# Altium footprint library relay.PCBLIB: 291 footprints (part 13 of 19)
Each footprint in its own frame and in the unit in brackets; x right, y up, seen from the top. Pads: shape width x height; smd on the part's side, far side on the other; paste and mask are expansions set on the pad; w line width, h text height; cw(c..) or ccw(c..) is an arc to the next point about the centre after c.
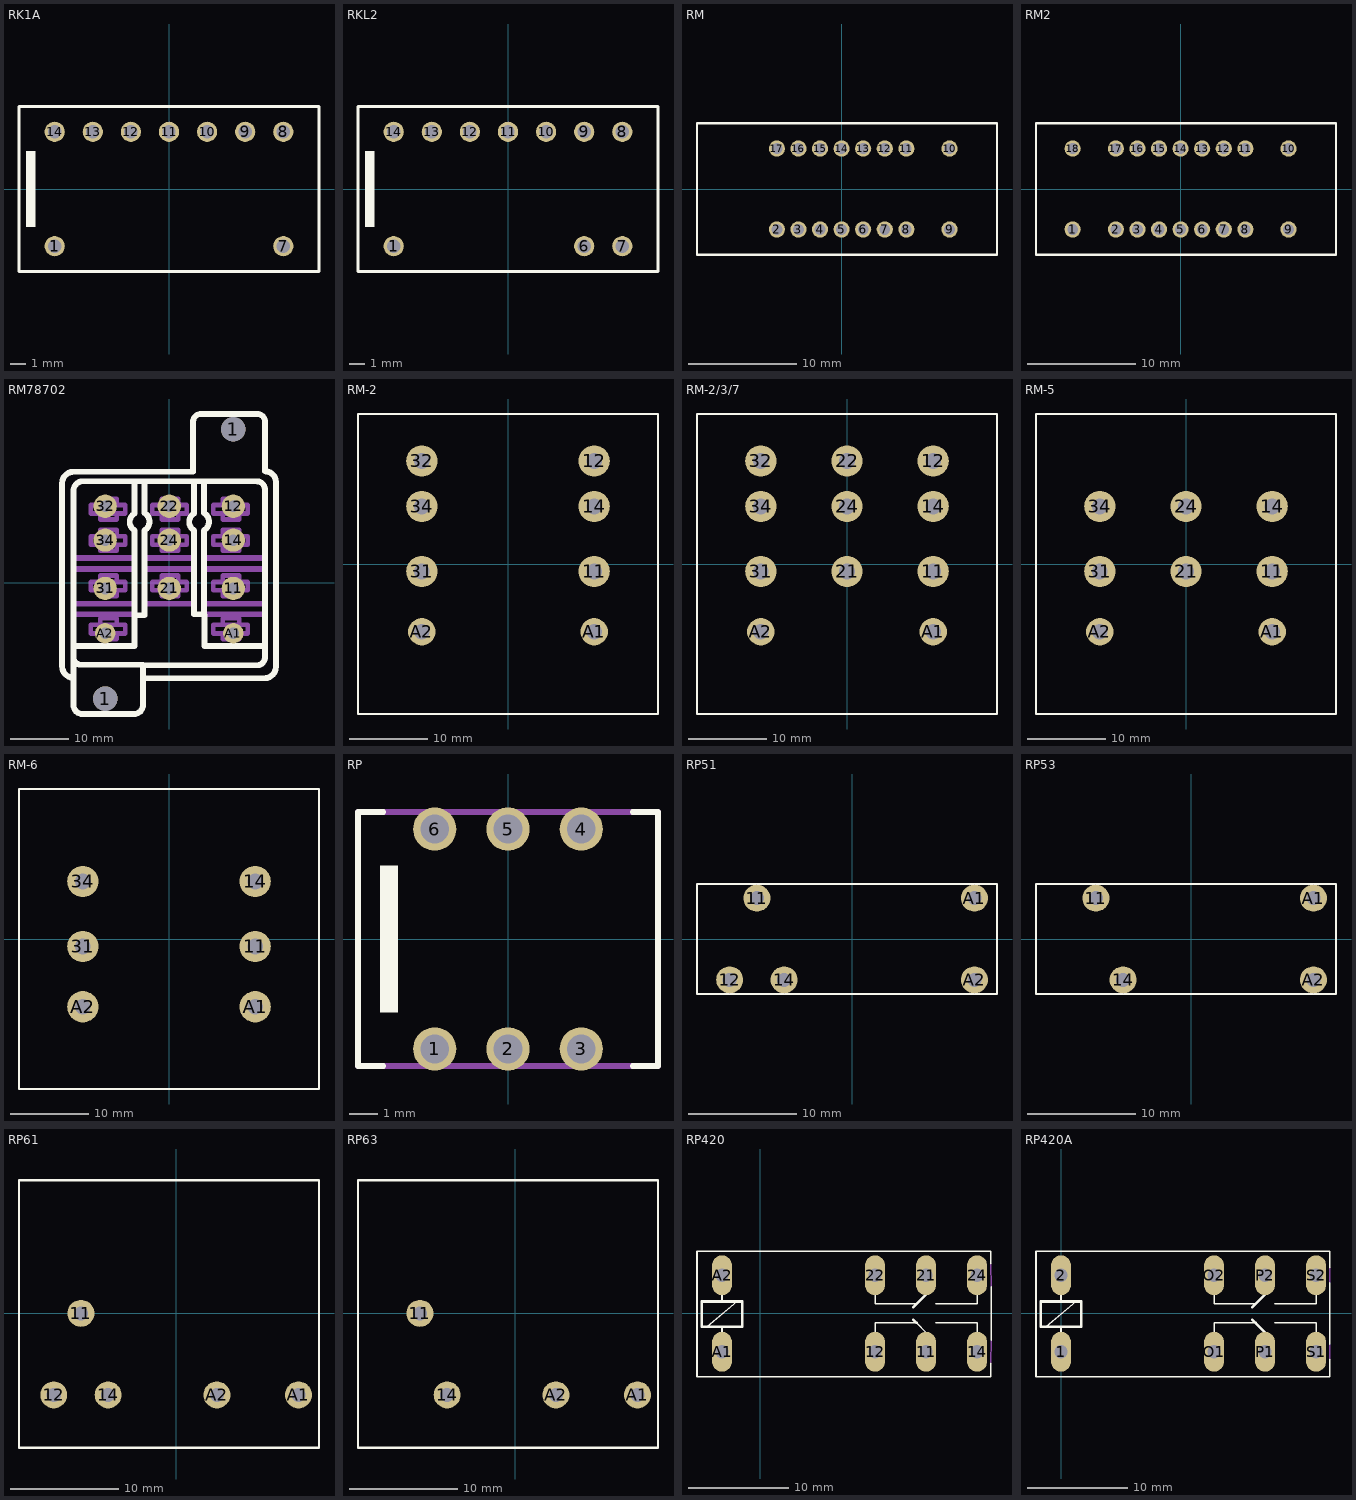
[diagram p12: the footprints below, top view; thin cyan lines are the x and y axes]

## RK1A [mil]
pads (9):
  round 53.15 hole 35.43: 1(-300,-150) 7(300,-150) 8(300,150) 9(200,150) 10(100,150) 11(0,150) 12(-100,150) 13(-200,150) 14(-300,150)
Top Overlay:
  rectangle: -375,-100 -350,100
  lines w8: -393.7,-216.54 393.7,-216.54 393.7,216.54 -393.7,216.54 -393.7,-216.54

## RKL2 [mil]
pads (10):
  round 53.15 hole 35.43: 1(-300,-150) 6(200,-150) 7(300,-150) 8(300,150) 9(200,150) 10(100,150) 11(0,150) 12(-100,150) 13(-200,150) 14(-300,150)
Top Overlay:
  rectangle: -375,-100 -350,100
  lines w8: -393.7,-216.54 393.7,-216.54 393.7,216.54 -393.7,216.54 -393.7,-216.54

## RM [mm]
pads (16):
  round 1.5 hole 1: 2(-6,-3.75) 3(-4,-3.75) 4(-2,-3.75) 5(0,-3.75) 6(2,-3.75) 7(4,-3.75) 8(6,-3.75) 9(10,-3.75) 10(10,3.75) 11(6,3.75) 12(4,3.75) 13(2,3.75) 14(0,3.75) 15(-2,3.75) 16(-4,3.75) 17(-6,3.75)
Top Overlay:
  lines w0.203: -13.4,-6.1 14.4,-6.1 14.4,6.1 -13.4,6.1 -13.4,-6.1

## RM2 [mm]
pads (18):
  round 1.5 hole 1: 1(-10,-3.75) 2(-6,-3.75) 3(-4,-3.75) 4(-2,-3.75) 5(0,-3.75) 6(2,-3.75) 7(4,-3.75) 8(6,-3.75) 9(10,-3.75) 10(10,3.75) 11(6,3.75) 12(4,3.75) 13(2,3.75) 14(0,3.75) 15(-2,3.75) 16(-4,3.75) 17(-6,3.75) 18(-10,3.75)
Top Overlay:
  lines w0.203: -13.4,-6.1 14.4,-6.1 14.4,6.1 -13.4,6.1 -13.4,-6.1

## RM78702 [mm]
pads (13):
  round 4.2 hole 4.2: 1(-11,-19.85) 1(11,26.35)
  round 4 hole 2: 11(11,-0.95) 12(11,13.15) 14(11,7.35) 21(0,-0.95) 22(0,13.15) 24(0,7.35) 31(-11,-0.95) 32(-11,13.15) 34(-11,7.35)
  round 3.5 hole 2: A1(11,-8.65) A2(-11,-8.65)
Top Overlay:
  lines w1: -15.92,-10.819 -5.96,-10.819 -5.96,-5.541 -4.257,-5.541 -4.257,9.018 ccw(c-5.108,10.507) -4.257,11.997 -4.257,16.85 ; -5.96,-5.37 -5.96,9.018 cw(c-5.108,10.465) -5.96,11.912 -5.96,16.85 ; -4.597,-14.139 15.069,-14.139 ccw(c15.069,-12.777) 16.431,-12.777 16.431,15.999 ccw(c14.984,15.999) 14.984,17.446 -14.814,17.446 ccw(c-14.813,15.828) -16.431,15.828 -16.431,-12.777 ; 4.257,16.85 4.257,11.912 ccw(c5.108,10.465) 4.257,9.018 4.257,-5.37 5.959,-5.37 5.959,9.018 ccw(c5.108,10.507) 5.959,11.997 5.959,16.85 ; 6.044,-5.541 6.044,-10.819 16.005,-10.819 ; -16.431,-16.268 -16.431,-12.777 ; -16.431,-16.268 -16.431,-20.968 ccw(c-14.899,-20.968) -14.899,-22.5 -6.045,-22.5 ccw(c-6.045,-20.968) -4.512,-20.968 -4.512,-16.353 ; -16.431,-16.268 cw(c-16.431,-14.309) -18.389,-14.31 -18.389,17.105 cw(c-16.431,17.105) -16.431,19.063 4.087,19.063 4.087,27.627 cw(c5.449,27.627) 5.449,28.989 15.154,28.989 cw(c15.154,27.712) 16.431,27.712 16.431,19.149 cw(c16.474,17.319) 18.304,17.361 18.304,-14.395 cw(c16.346,-14.395) 16.346,-16.353 -4.512,-16.353 ; -16.431,-12.777 ccw(c-15.154,-12.777) -15.154,-14.054 -4.512,-14.054 -4.512,-16.353
Mechanical 16:
  lines w0.8: -11.834,-9.116 -11.834,-9.627 -9.024,-9.627 -9.024,-9.116 ; -11.834,-6.818 -11.834,-6.051 -9.024,-6.051 -9.024,-6.733 ; -11.834,-1.709 -11.834,-2.306 -9.024,-2.306 -9.024,-1.709 ; -11.834,0.504 -11.834,1.27 -9.024,1.27 -9.024,0.589 ; -11.834,6.123 -11.834,5.527 -9.024,5.527 -9.024,6.123 ; -11.834,8.336 -11.834,9.103 -9.024,9.103 -9.024,8.422 ; -11.834,11.486 -11.834,10.891 -9.024,10.891 -9.024,11.486 ; -11.834,13.615 -11.834,14.466 -9.024,14.466 -9.024,13.785 ; -1.277,-1.709 -1.277,-2.306 1.532,-2.306 1.532,-1.709 ; -1.277,0.504 -1.277,1.27 1.532,1.27 1.532,0.589 ; -1.277,6.123 -1.277,5.527 1.532,5.527 1.532,6.123 ; -1.277,8.336 -1.277,9.103 1.532,9.103 1.532,8.422 ; -1.277,11.486 -1.277,10.891 1.532,10.891 1.532,11.486 ; -1.277,13.615 -1.277,14.466 1.532,14.466 1.532,13.785 ; 9.195,-9.116 9.195,-9.627 12.004,-9.627 12.004,-9.116 ; 9.195,-6.818 9.195,-6.051 12.004,-6.051 12.004,-6.733 ; 9.195,-1.709 9.195,-2.306 12.004,-2.306 12.004,-1.709 ; 9.195,0.504 9.195,1.27 12.004,1.27 12.004,0.589 ; 9.195,6.123 9.195,5.527 12.004,5.527 12.004,6.123 ; 9.195,8.336 9.195,9.103 12.004,9.103 12.004,8.422 ; 9.195,11.486 9.195,10.891 12.004,10.891 12.004,11.486 ; 9.195,13.615 9.195,14.466 12.004,14.466 12.004,13.785 ; -13.451,-8.691 -7.577,-8.691 -7.577,-7.158 -13.451,-7.158 -13.451,-8.691 ; -13.451,-1.284 -7.577,-1.284 -7.577,0.164 -13.451,0.164 -13.451,-1.284 ; -13.451,6.549 -7.577,6.549 -7.577,7.996 -13.451,7.996 -13.451,6.549 ; -13.451,11.912 -13.451,13.359 -7.577,13.359 -7.577,11.912 -13.451,11.912 ; -2.895,-1.284 2.98,-1.284 2.98,0.164 -2.895,0.164 -2.895,-1.284 ; -2.895,6.549 2.98,6.549 2.98,7.996 -2.895,7.996 -2.895,6.549 ; -2.895,11.912 -2.895,13.359 2.98,13.359 2.98,11.912 -2.895,11.912 ; 7.577,-8.691 13.451,-8.691 13.451,-7.158 7.577,-7.158 7.577,-8.691 ; 7.577,-1.284 13.451,-1.284 13.451,0.164 7.577,0.164 7.577,-1.284 ; 7.577,6.549 13.451,6.549 13.451,7.996 7.577,7.996 7.577,6.549 ; 7.577,11.912 7.577,13.359 13.451,13.359 13.451,11.912 7.577,11.912
  lines w1: -16.005,-5.37 -5.96,-5.37 ; -16.005,-3.582 -6.47,-3.582 ; -15.92,2.377 -6.47,2.377 ; -15.92,4.25 -6.47,4.25 ; -4.087,4.25 3.746,4.25 ; -3.831,2.377 3.746,2.377 ; -3.661,-3.582 3.746,-3.582 ; 5.959,-5.541 5.959,-5.37 ; 6.13,-5.37 16.175,-5.37 ; 6.385,-3.582 15.92,-3.582 ; 6.47,2.377 15.92,2.377 ; 6.47,4.25 15.75,4.25

## RM-2 [mm]
pads (8):
  round 4 hole 2: 11(11,-0.95) 12(11,13.15) 14(11,7.35) 31(-11,-0.95) 32(-11,13.15) 34(-11,7.35)
  round 3.5 hole 2: A1(11,-8.65) A2(-11,-8.65)
Top Overlay:
  lines w0.203: -19.15,-19.15 19.15,-19.15 19.15,19.15 -19.15,19.15 -19.15,-19.15

## RM-2/3/7 [mm]
pads (11):
  round 4 hole 2: 11(11,-0.95) 12(11,13.15) 14(11,7.35) 21(0,-0.95) 22(0,13.15) 24(0,7.35) 31(-11,-0.95) 32(-11,13.15) 34(-11,7.35)
  round 3.5 hole 2: A1(11,-8.65) A2(-11,-8.65)
Top Overlay:
  lines w0.203: -19.15,-19.15 19.15,-19.15 19.15,19.15 -19.15,19.15 -19.15,-19.15

## RM-5 [mm]
pads (8):
  round 4 hole 2: 11(11,-0.95) 14(11,7.35) 21(0,-0.95) 24(0,7.35) 31(-11,-0.95) 34(-11,7.35)
  round 3.5 hole 2: A1(11,-8.65) A2(-11,-8.65)
Top Overlay:
  lines w0.203: -19.15,-19.15 19.15,-19.15 19.15,19.15 -19.15,19.15 -19.15,-19.15

## RM-6 [mm]
pads (6):
  round 4 hole 2: 11(11,-0.95) 14(11,7.35) 31(-11,-0.95) 34(-11,7.35) A1(11,-8.65) A2(-11,-8.65)
Top Overlay:
  lines w0.203: -19.15,-19.15 19.15,-19.15 19.15,19.15 -19.15,19.15 -19.15,-19.15

## RP [mm]
pads (6):
  round 1.5 hole 1: 1(-2.54,-3.81) 2(0,-3.81) 3(2.54,-3.81) 4(2.54,3.81) 5(0,3.81) 6(-2.54,3.81)
Top Overlay:
  rectangle: -4.445,-2.54 -3.81,2.54
  lines w0.203: -4.325,-4.4 -5.2,-4.4 -5.2,4.4 -4.325,4.4 ; 4.325,-4.4 5.2,-4.4 5.2,4.4 4.325,4.4
Mechanical 16:
  lines w0.203: -5.2,-4.4 5.2,-4.4 ; -5.2,4.4 5.2,4.4

## RP51 [mil]
pads (5):
  round 98.43 hole 51.18: 11(-347.24,148.82) 12(-446.46,-148.82) 14(-248.03,-148.82) A1(446.46,148.82) A2(446.46,-148.82)
Top Overlay:
  lines w8: -565.75,-200.79 528.74,-200.79 528.74,200.79 -565.75,200.79 -565.75,-200.79

## RP53 [mil]
pads (4):
  round 98.43 hole 51.18: 11(-347.24,148.82) 14(-248.03,-148.82) A1(446.46,148.82) A2(446.46,-148.82)
Top Overlay:
  lines w8: -565.75,-200.79 528.74,-200.79 528.74,200.79 -565.75,200.79 -565.75,-200.79

## RP61 [mil]
pads (5):
  round 98.43 hole 51.18: 11(-347.24,0) 12(-446.46,-297.64) 14(-248.03,-297.64) A1(446.46,-297.64) A2(148.82,-297.64)
Top Overlay:
  lines w8: -573.23,-490.55 521.26,-490.55 521.26,485.83 -573.23,485.83 -573.23,-490.55

## RP63 [mil]
pads (4):
  round 98.43 hole 51.18: 11(-347.24,0) 14(-248.03,-297.64) A1(446.46,-297.64) A2(148.82,-297.64)
Top Overlay:
  lines w8: -573.23,-490.55 521.26,-490.55 521.26,485.83 -573.23,485.83 -573.23,-490.55

## RP420 [mil]
pads (8):
  oval 78x156 hole 52: 11(650,-150) 12(450,-150) 14(850,-150) 21(650,150) 22(450,150) 24(850,150) A1(-150,-150) A2(-150,150)
Top Overlay:
  lines w6: -209,-52 -91,47 ; -150,-81 -150,-52 ; -150,47 -150,81 ; 450,-85 450,-37 613,-37 650,-75 650,-85 ; 450,83 450,38 613,38 ; 650,75 650,85 ; 688,-37 850,-37 850,-85 ; 688,38 850,38 850,83 ; 904,-195 904,-248 -248,-248 -248,244 904,244 904,195 ; 905,-105 905,105
  lines w10: 600,-25 613,-37 ; 600,25 613,38 650,75 ; -229,-52 -229,47 -150,47 -91,47 -71,47 -71,-52 -150,-52 -209,-52 -229,-52
Mechanical 16:
  lines w6: 650,-100 650,-85 ; 650,85 650,100 ; 904,-195 905,-105 ; 904,195 905,105
  text "RP420" at 200,-200 h108.5

## RP420A [mil]
pads (8):
  oval 78x156 hole 52: 1(0,-150) 2(0,150) O1(600,-150) O2(600,150) P1(800,-150) P2(800,150) S1(1000,-150) S2(1000,150)
Top Overlay:
  lines w6: -59,-52 59,47 ; 0,-96 0,-52 ; 0,47 0,96 ; 600,-95 600,-37 763,-37 ; 600,95 600,38 763,38 ; 800,-95 800,-75 ; 800,75 800,95 ; 838,-37 1000,-37 1000,-95 ; 838,38 1000,38 1000,95 ; 1054,-180 1054,-248 -98,-248 -98,244 1054,244 1054,180 ; 1054,-120 1054,120
  lines w10: 750,-25 763,-37 800,-75 ; 750,25 763,38 800,75 ; -79,-52 -79,47 0,47 59,47 79,47 79,-52 0,-52 -59,-52 -79,-52
Mechanical 16:
  lines w6: 1054,-180 1054,-120 ; 1054,120 1054,180
  text "RP420" at 300,-160 h108.5